# Altium footprint library allegro-packages.PcbLib: 1 footprints
Each footprint in its own frame and in the unit in brackets; x right, y up, seen from the top. Pads: shape width x height; smd on the part's side, far side on the other; paste and mask are expansions set on the pad; w line width, h text height; cw(c..) or ccw(c..) is an arc to the next point about the centre after c.
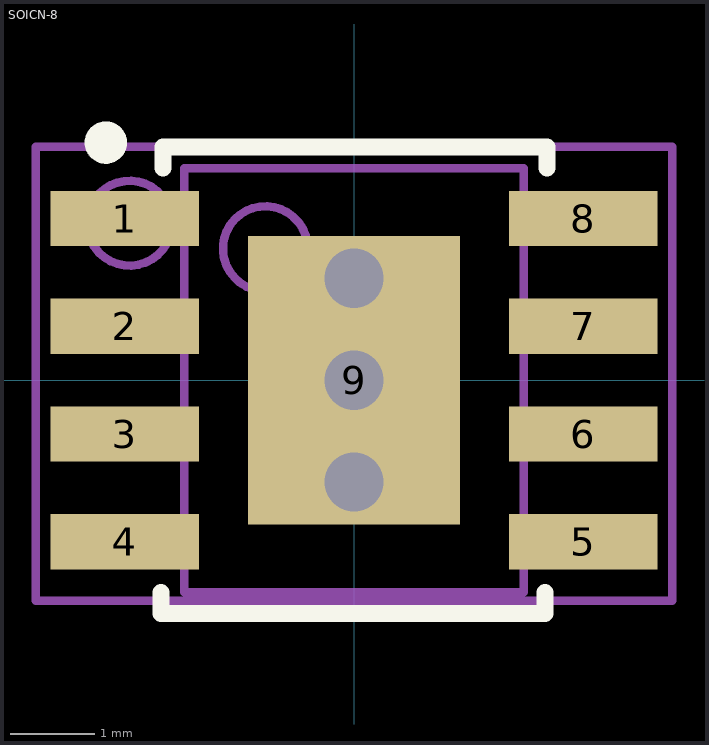
[diagram p0: the footprint, top view; thin cyan lines are the x and y axes]

## SOICN-8 [mm] "8-Pin SOICN with wxposed thermal pad"
height 1.7
pads (9):
  rect 1.75x0.65 smd: 1(-2.7,1.905) 2(-2.7,0.635) 3(-2.7,-0.635) 4(-2.7,-1.905) 5(2.7,-1.905) 6(2.7,-0.635) 7(2.7,0.635) 8(2.7,1.905)
  rect 2.5x3.4 smd: 9(0,0)
via 0,1.2 diameter 1 hole 0.7
via 0,0 diameter 1 hole 0.7
via 0,-1.2 diameter 1 hole 0.7
Top Overlay:
  circle w0.25: c-2.925,2.8 r0.125
  lines w0.2: -2.275,-2.5 -2.275,-2.75 2.25,-2.75 2.25,-2.5 ; -2.25,2.5 -2.25,2.75 2.275,2.75 2.275,2.5
Mechanical 13:
  circle w0.1: c-1.045,1.55 r0.5
  lines w0.1: -0.5,0 0.5,0 ; 0,-0.5 0,0.5 ; -2,-2.5 -2,2.5 2,2.5 2,-2.5 -2,-2.5
Mechanical 15:
  circle w0.1: c-2.645,1.85 r0.5
  lines w0.1: 0,-0.5 0,0.5 ; -3.75,-2.6 -3.75,2.75 3.75,2.75 3.75,-2.6 -3.75,-2.6
  text ".Designator" at -0.1,2.375 h0.5
3D body: height 1.75, standoff 0, extent -2.9,-2.4 2.9,2.4